# EAGLE library part LMH6321 (library opamps)
LMH6321: High-speed buffer with current limit (National Semicondurctor) ±15V, ±300mA, 17µA bias 52mV offset, 48MHz UGF, 2.8nV/rt(Hz) noise
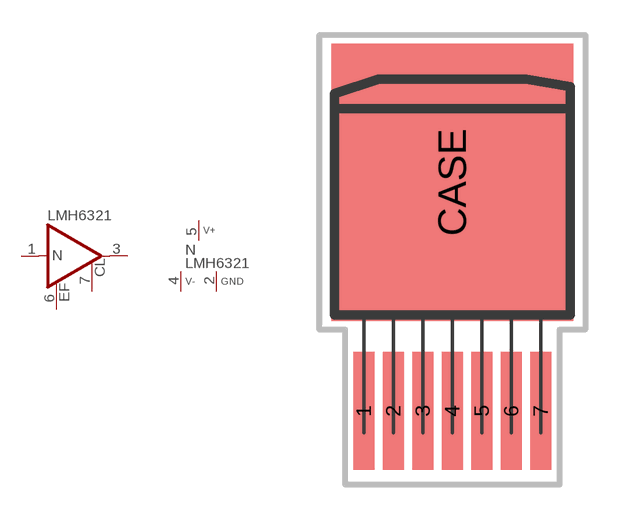
[diagram p268: symbol with the pads of TO263-7; footprint TO263-7]

Designator prefix N; gates A=LMH6321 P=V+-GND

## LMH6321  [TO263-7]
1  A:IN  in
2  P:GND  pwr
3  A:OUT  out
4  P:V-  pwr
5  P:V+  pwr
6  A:EF
7  A:CL

## LMH6321S  [TO263-7]
Pads as for TO263-7

## Footprint TO263-7 (pad centres in mm)
TO-263 SMD power pac, 7 pins
smd 0.914 x 5.08: 1 -3.81,-0.318; 2 -2.54,-0.318; 3 -1.27,-0.318; 4 0,-0.318; 5 1.27,-0.318; 6 2.54,-0.318; 7 3.81,-0.318
smd 10.414 x 11.938: CASE 0,9.525